# Altium schematic symbol library IC-WCH.SchLib: 4 symbols
Pins are listed as number, name and electrical type; pins without a type are passive.

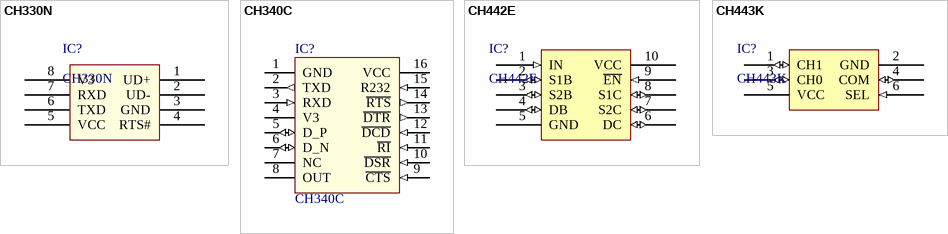
[diagram p0: symbols CH330N to CH443K]

## CH330N
designator IC?
USB转UART(停产); LCSC: *
footprint SOP-8 (SOP, 8-Leads, Body 4.90x3.90mm, Pitch 1.27mm, IPC Medium Density)
pins: 1 UD+ (power), 2 UD- (power), 3 GND (power), 4 RTS# (power), 5 VCC (power), 6 TXD (power), 7 RXD (power), 8 V3 (power)

## CH340C
designator IC?
USB转UART; Manufacturer_Name: WCH(南京沁恒); Manufacturer_Part_Number: CH340C; LCSC: C84681
footprint SOP16
pins: 1 GND (power), 2 TXD (out), 3 RXD (in), 4 V3 (power), 5 D_P (io), 6 D_N (io), 7 NC (power), 8 OUT (power), 9 ~{CTS} (in), 10 ~{DSR} (in), 11 ~{RI} (in), 12 ~{DCD} (in), 13 ~{DTR} (out), 14 ~{RTS} (out), 15 R232 (in), 16 VCC (power)

## CH442E
designator IC?
双通道单刀双掷5V低阻模拟开关芯片; Manufacturer_Name: WCH(南京沁恒); Manufacturer_Part_Number: CH442E; LCSC: C150097
footprint MSOP-10
pins: 1 IN (in) "高电平选择S2X", 2 S1B (io), 3 S2B (io), 4 DB (io), 5 GND (power), 6 DC (io), 7 S2C (io), 8 S1C (io), 9 ~{EN} (in) "全局输入使能，低电平有效", 10 VCC (power)

## CH443K
designator IC?
单通道单刀双掷5V低阻模拟开关芯片; Manufacturer_Name: WCH(南京沁恒); Manufacturer_Part_Number: CH443K; LCSC: C125185
footprint SC-70-6 (SC-70-6(SOT-363))
pins: 1 CH1 (io), 2 GND (power), 3 CH0 (io), 4 COM (io), 5 VCC (power) "2.5V-5V", 6 SEL (in) "低电平选择CH0"